# Altium schematic symbol library M62363FP.SchLib: 1 symbol
Pins are listed as number, name and electrical type; pins without a type are passive.

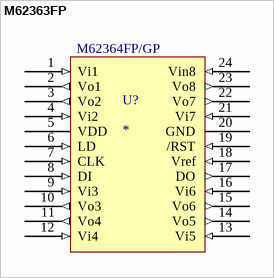
[diagram p0: symbol M62363FP]

## M62363FP
designator U?
8 x DAC 8bit Serial
footprint TSSOP24_without_Pad
pins: 1 Vi1 (in), 2 Vo1 (out), 3 Vo2 (out), 4 Vi2 (in), 5 VDD (power), 6 LD (in), 7 CLK (in), 8 DI (in), 9 Vi3 (in), 10 Vo3 (out), 11 Vo4 (out), 12 Vi4 (in), 13 Vi5 (in), 14 Vo5 (out), 15 Vo6 (out), 16 Vi6 (in), 17 DO (out), 18 Vref (in), 19 /RST (in), 20 GND (power), 21 Vi7 (in), 22 Vo7 (out), 23 Vo8 (out), 24 Vin8 (in)
text: M62364FP/GP